# Altium footprint library FRONT-UNIT-71.PcbLib: 35 footprints (part 2 of 3)
Each footprint in its own frame and in the unit in brackets; x right, y up, seen from the top. Pads: shape width x height; smd on the part's side, far side on the other; paste and mask are expansions set on the pad; w line width, h text height; cw(c..) or ccw(c..) is an arc to the next point about the centre after c.
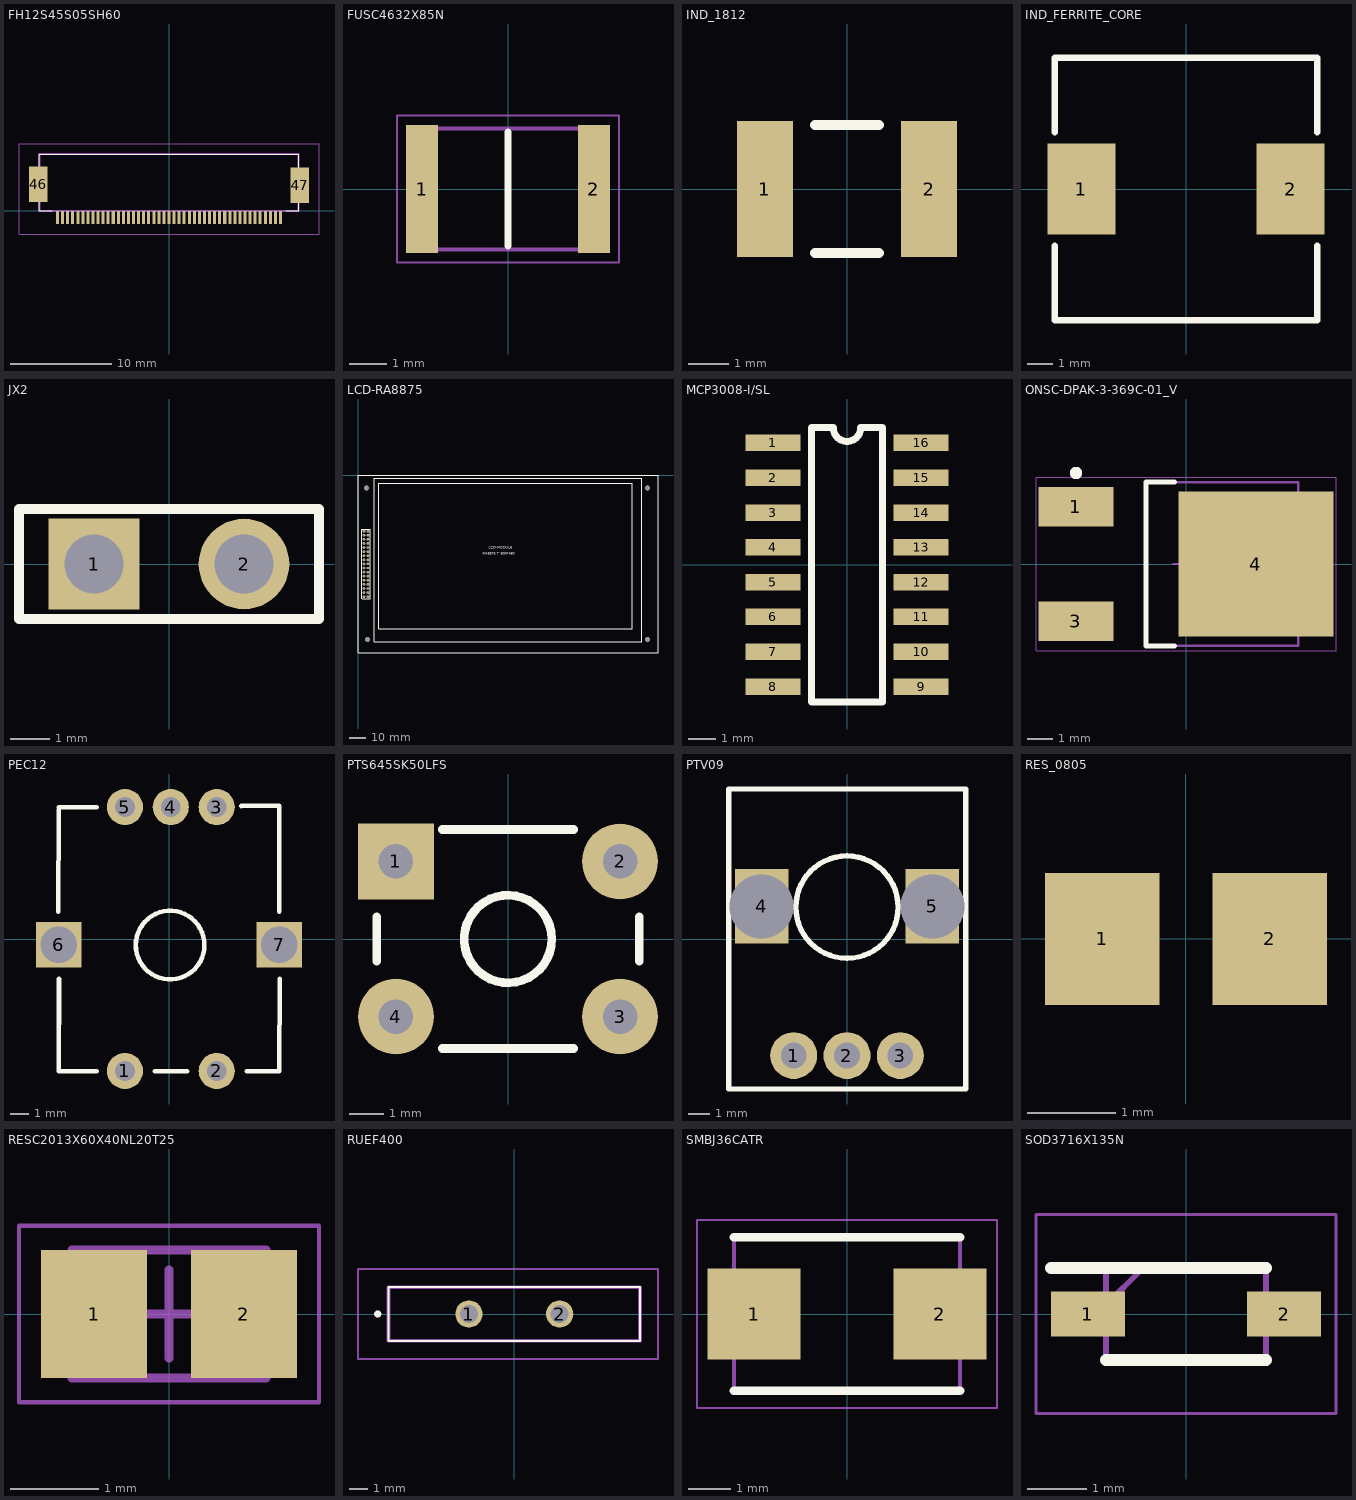
[diagram p1: the footprints below, top view; thin cyan lines are the x and y axes]

## FH12S45S05SH60 [mm]
pads (47):
  rect 0.3x1.3 smd: 1(11,-0.65) 2(10.5,-0.65) 3(10,-0.65) 4(9.5,-0.65) 5(9,-0.65) 6(8.5,-0.65) 7(8,-0.65) 8(7.5,-0.65) 9(7,-0.65) 10(6.5,-0.65) 11(6,-0.65) 12(5.5,-0.65) 13(5,-0.65) 14(4.5,-0.65) 15(4,-0.65) 16(3.5,-0.65) 17(3,-0.65) 18(2.5,-0.65) 19(2,-0.65) 20(1.5,-0.65) 21(1,-0.65) 22(0.5,-0.65) 23(0,-0.65) 24(-0.5,-0.65) 25(-1,-0.65) 26(-1.5,-0.65) 27(-2,-0.65) 28(-2.5,-0.65) 29(-3,-0.65) 30(-3.5,-0.65) 31(-4,-0.65) 32(-4.5,-0.65) 33(-5,-0.65) 34(-5.5,-0.65) 35(-6,-0.65) 36(-6.5,-0.65) 37(-7,-0.65) 38(-7.5,-0.65) 39(-8,-0.65) 40(-8.5,-0.65) 41(-9,-0.65) 42(-9.5,-0.65) 43(-10,-0.65) 44(-10.5,-0.65) 45(-11,-0.65)
  rect 1.8x3.5 smd: 46(-12.9,2.6) 47(12.9,2.54)
Top Overlay:
  lines w0.1: -12.8,1 -12.8,0 -11.5,0 ; -12.8,4 -12.8,5.6 12.8,5.6 12.8,4 ; 11.5,0 12.8,0 12.8,1
Mechanical 13:
  lines w0.2: -12.8,0 -12.8,5.6 12.8,5.6 12.8,0 -12.8,0
Mechanical 15:
  lines w0.1: -14.8,-2.3 -14.8,6.6 14.8,6.6 14.8,-2.3 -14.8,-2.3
3D body "FH12S-45S-0.5SH_55_.stp": height 2.1, standoff 0, extent -13.62,-5.6 13.62,1.27

## FUSC4632X85N [mm]
pads (2):
  rect 0.85x3.43 smd: 1(-2.3,0) 2(2.3,0)
Top Overlay:
  lines w0.2: 0,-1.52 0,1.52
Mechanical 13:
  lines w0.1: -2.275,-1.62 -2.275,1.62 2.275,1.62 2.275,-1.62 -2.275,-1.62
Mechanical 15:
  lines w0.05: -2.975,-1.965 -2.975,1.965 2.975,1.965 2.975,-1.965 -2.975,-1.965
3D body "MF-MSMF110_16-2.stp": height 0.85, standoff 0, extent -2.275,-1.62 2.275,1.62

## IND_1812 [mm]
pads (2):
  rect 1.4x3.4 smd: 1(-2.05,0) 2(2.05,0)
Top Overlay:
  lines w0.254: -0.8,-1.6 0.8,-1.6 ; -0.8,1.6 0.8,1.6

## IND_FERRITE_CORE [mm]
pads (2):
  rect 2.7x3.6 smd: 1(-4.15,0) 2(4.15,0)
Top Overlay:
  lines w0.254: -5.2,-2.25 -5.2,-5.2 5.2,-5.2 5.2,-2.25 ; -5.2,2.25 -5.2,5.2 5.2,5.2 5.2,2.25

## JX2 [mm]
pads (2):
  rect 2.3x2.3 hole 1.5: 1(-1.905,0)
  round 2.3 hole 1.5: 2(1.905,0)
Top Overlay:
  lines w0.254: -3.81,-1.4 -3.81,1.4 3.81,1.4 3.81,-1.4 -3.81,-1.4

## LCD-RA8875 [mm]
pads (34):
  rect 1.7x1.7 hole 1.1: 1(3.683,-34.798)
  round 1.7 hole 1.1: 2(6.223,-34.798) 3(3.683,-37.338) 5(3.683,-39.878) 7(3.683,-42.418) 9(3.683,-44.958) 11(3.683,-47.498) 13(3.683,-50.038) 15(3.683,-52.578) 17(3.683,-55.118) 19(3.683,-57.658) 21(3.683,-60.198) 23(3.683,-62.738) 25(3.683,-65.278) 27(3.683,-67.818) 29(3.683,-70.358) 31(3.683,-72.898) 33(3.683,-75.438)
  oval 2x1.5 hole 1.1: 4(6.223,-37.338) 6(6.223,-39.878) 8(6.223,-42.418) 10(6.223,-44.958) 12(6.223,-47.498) 14(6.223,-50.038) 16(6.223,-52.578) 18(6.223,-55.118) 20(6.223,-57.658) 22(6.223,-60.198) 24(6.223,-62.738) 26(6.223,-65.278) 28(6.223,-67.818) 30(6.223,-70.358) 32(6.223,-72.898) 34(6.223,-75.438)
via 179.46,-8 diameter 3.2 hole 3
via 179.46,-102.07 diameter 3.2 hole 3
via 5.84,-102.1 diameter 3.2 hole 3
via 5.33,-8 diameter 3.2 hole 3
Top Overlay:
  lines w0.254: 2.409,-76.835 2.409,-33.526 7.495,-33.526 7.495,-76.833 2.54,-76.833 ; 0,-110.36 186.06,-110.36 186.06,0 0,0 0,-110.36 ; 10,-103.36 10,-2 176.06,-2 176.06,-103.36 10,-103.36 ; 13,-95.36 170.06,-95.36 170.06,-5 13,-5 13,-95.36
  text "LCD-MODULE" at 81.153,-45.72 h1.67
  text "RA8875 7' 800*480" at 77.216,-49.403 h1.67

## MCP3008-I/SL [mm]
pads (16):
  rect 2x0.6 smd: 1(-2.7,4.445) 2(-2.7,3.175) 3(-2.7,1.905) 4(-2.7,0.635) 5(-2.7,-0.635) 6(-2.7,-1.905) 7(-2.7,-3.175) 8(-2.7,-4.445) 9(2.7,-4.445) 10(2.7,-3.175) 11(2.7,-1.905) 12(2.7,-0.635) 13(2.7,0.635) 14(2.7,1.905) 15(2.7,3.175) 16(2.7,4.445)
Top Overlay:
  lines w0.254: -1.3,-5 -1.3,5 -0.5,5 ccw(c0,5) 0.5,5 1.3,5 1.3,-5 -1.3,-5

## ONSC-DPAK-3-369C-01_V [mm] "DPAK, 3-Leads, Body 6.54x6.095mm, Pitch 2.29mm"
height 2.38
pads (3):
  rect 3x1.6 smd: 1(-4.4,2.29) 3(-4.4,-2.29)
  rect 6.2x5.8 smd: 4(2.8,0)
Top Overlay:
  circle w0.25: c-4.4,3.64 r0.125
  lines w0.2: -0.453,-3.27 -1.6,-3.27 -1.6,3.27 -0.453,3.27
Mechanical 13:
  lines w0.1: -1.6,-3.27 -1.6,3.27 4.495,3.27 4.495,-3.27 -1.6,-3.27
Mechanical 15:
  lines w0.05: -6,-3.465 -6,3.465 6,3.465 6,-3.465 -6,-3.465
  lines w0.1: -0.5,0 0.5,0 ; 0,-0.5 0,0.5
3D body: height 2.38, standoff 0, extent -1.6,-3.27 4.495,3.27

## PEC12 [mm]
pads (7):
  round 2 hole 1.1: 1(-2.44,-7.302) 2(2.64,-7.302) 3(2.64,7.302) 4(0.1,7.302) 5(-2.44,7.302)
  rect 2.5x2.5 hole 2 square: 6(-6.1,-0.318) 7(6.1,-0.318)
Top Overlay:
  circle w0.254: c0.061,-0.338 r1.9
  lines w0.254: -6.12,1.5 -6.101,7.183 ; -6.101,7.283 -6.001,7.283 -4,7.293 ; -6.09,-2.2 -6.101,-7.318 -4,-7.318 ; -0.8,-7.318 1,-7.318 ; 4,7.363 6.101,7.383 6.101,1.5 ; 4.3,-7.318 6.101,-7.318 6.12,-2.2

## PTS645SK50LFS [mm]
pads (4):
  rect 2.2x2.2 hole 1: 1(-3.25,2.25)
  round 2.2 hole 1: 2(3.25,2.25) 3(3.25,-2.25) 4(-3.25,-2.25)
Top Overlay:
  circle w0.254: c0,0 r1.27
  lines w0.254: -3.81,-0.635 -3.81,0.635 ; -1.904,-3.174 1.904,-3.174 ; -1.904,3.175 1.904,3.175 ; 3.81,-0.635 3.81,0.635

## PTV09 [mm]
pads (5):
  round 2.2 hole 1.2: 1(-2.515,-5.465) 2(-0.015,-5.465) 3(2.485,-5.465)
  rect 2.5x3.5 hole 3 square: 4(-4.015,1.535) 5(3.985,1.535)
Top Overlay:
  circle w0.254: c-0.016,1.496 r2.4
  lines w0.254: -5.555,-7.035 -5.555,7.035 5.555,7.035 5.555,-7.035 -5.555,-7.035

## RES_0805 [mm]
pads (2):
  rect 1.3x1.5 smd: 1(-0.95,0) 2(0.95,0)

## RESC2013X60X40NL20T25 [mm] "Chip Resistor, 2-Leads, Body 2.00x1.25mm, IPC Medium Density"
height 0.6
pads (2):
  rect 1.2x1.45 smd: 1(-0.85,0) 2(0.85,0)
Mechanical 13:
  lines w0.1: -1.1,-0.725 -1.1,0.725 1.1,0.725 1.1,-0.725 -1.1,-0.725
Mechanical 15:
  lines w0.05: -1.7,-1 -1.7,1 1.7,1 1.7,-1 -1.7,-1
  lines w0.1: -0.5,0 0.5,0 ; 0,-0.5 0,0.5
3D body: height 0.6, standoff 0, extent -0.7,-0.725 0.7,0.725
3D body: height 0.6, standoff 0, extent -1.1,-0.725 -0.7,0.725
3D body: height 0.6, standoff 0, extent 0.7,-0.725 1.1,0.725

## RUEF400 [mm]
pads (2):
  round 1.515 hole 1.01: 1(-2.525,0) 2(2.525,0)
Top Overlay:
  lines w0.1: -7,-1.5 7,-1.5 7,1.5 -7,1.5 -7,-1.5
  lines w0.2: -7.6,-0.1 ccw(c-7.6,0) -7.6,0.1 ccw(c-7.6,0) -7.6,-0.1
Mechanical 13:
  lines w0.2: -7,-1.5 7,-1.5 7,1.5 -7,1.5 -7,-1.5
Mechanical 15:
  lines w0.1: -8.7,-2.5 8,-2.5 8,2.5 -8.7,2.5 -8.7,-2.5
3D body "RUEF400.stp": height 19.1, standoff -5, extent -7,-1.5 7,1.5

## SMBJ36CATR [mm]
pads (2):
  rect 2.2x2.15 smd: 1(-2.2,0) 2(2.2,0)
Top Overlay:
  lines w0.2: -2.675,-1.812 2.675,-1.812 ; -2.675,1.812 2.675,1.812
Mechanical 13:
  lines w0.1: -2.675,-1.812 -2.675,1.812 2.675,1.812 2.675,-1.812 -2.675,-1.812
Mechanical 15:
  lines w0.05: -3.55,-2.225 -3.55,2.225 3.55,2.225 3.55,-2.225 -3.55,-2.225
3D body "SM6T15A.stp": height 2.75, standoff 0, extent -3.085,-1.812 3.085,1.812

## SOD3716X135N [mm]
pads (2):
  rect 1.25x0.75 smd: 1(-1.65,0) 2(1.65,0)
Top Overlay:
  lines w0.2: -2.275,0.775 1.35,0.775 ; -1.35,-0.775 1.35,-0.775
Mechanical 13:
  lines w0.1: -1.35,0.15 -0.725,0.775 ; -1.35,-0.775 1.35,-0.775 1.35,0.775 -1.35,0.775 -1.35,-0.775
Mechanical 15:
  lines w0.05: -2.525,-1.675 2.525,-1.675 2.525,1.675 -2.525,1.675 -2.525,-1.675
3D body "1n4148w.stp": height 1.35, standoff 0, extent -1.85,-0.775 1.85,0.775